# EAGLE library part MIC_CONN_MALE_8P (library ipas)
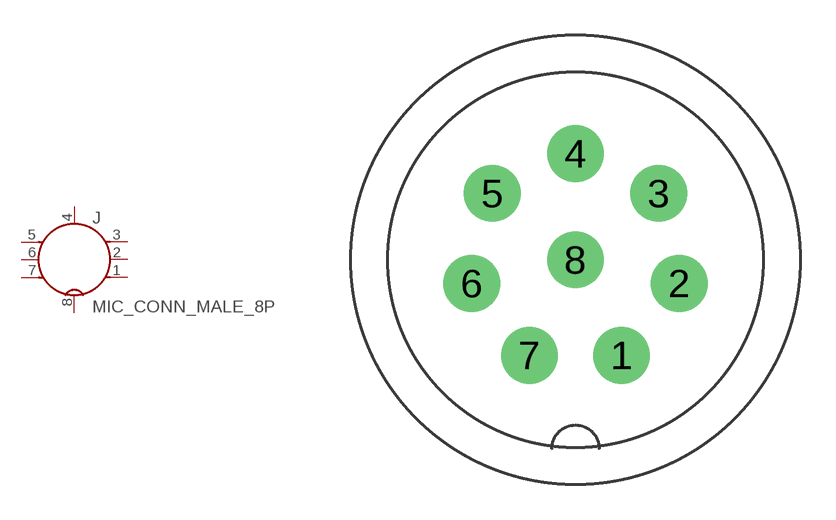
[diagram p19: symbol with the pads of MIC_CONN_MALE_8P; footprint MIC_CONN_MALE_8P]

Designator prefix J

## MIC_CONN_MALE_8P  [MIC_CONN_MALE_8P]
1  P1  pas
2  P2  pas
3  P3  pas
4  P4  pas
5  P5  pas
6  P6  pas
7  P7  pas
8  P8  pas

## Footprint MIC_CONN_MALE_8P (pad centres in mm)
drill 1.6: 1 1.95,-4.05; 2 4.39,-1; 3 3.52,2.81; 4 0,4.5; 5 -3.52,2.81; 6 -4.39,-1; 7 -1.95,-4.05; 8 0,0